# EAGLE library part D24V150F6 (library HeRo)
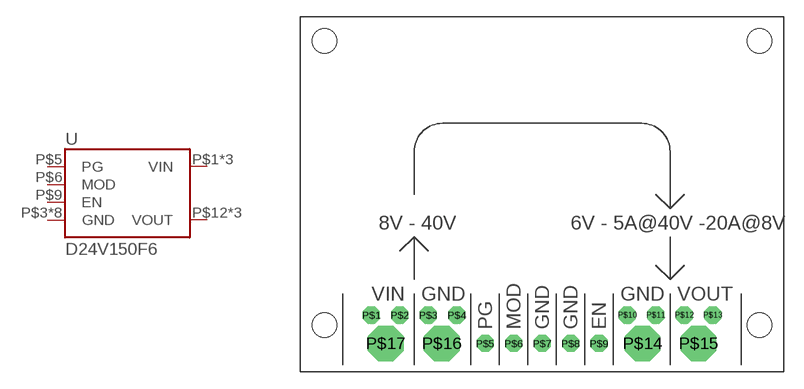
[diagram p4: symbol with the pads of D24V150F6; footprint D24V150F6]

Designator prefix -

## D24V150F6  [D24V150F6]
P$1  VIN
P$2  VIN
P$3  GND
P$4  GND
P$5  PG
P$6  MOD
P$7  GND
P$8  GND
P$9  EN
P$10  GND
P$11  GND
P$12  VOUT
P$13  VOUT
P$14  GND
P$15  VOUT
P$16  GND
P$17  VIN

## Footprint D24V150F6 (pad centres in mm)
drill 1.016 octagon: P$1 -15.24,-10.795; P$2 -12.7,-10.795; P$3 -10.16,-10.795; P$4 -7.62,-10.795; P$5 -5.08,-13.335; P$6 -2.54,-13.335; P$7 0,-13.335; P$8 2.54,-13.335; P$9 5.08,-13.335; P$10 7.62,-10.795; P$11 10.16,-10.795; P$12 12.7,-10.795; P$13 15.24,-10.795
drill 2.184 octagon: P$14 8.966,-13.335; P$15 13.97,-13.335; P$16 -8.966,-13.335; P$17 -13.97,-13.335
hole 2.184 at -19.431,13.716
hole 2.184 at -19.431,-11.684
hole 2.184 at 19.431,-11.684
hole 2.184 at 19.431,13.716